# Altium schematic symbol library POGO_INS.Schlib: 1 symbol
Pins are listed as number, name and electrical type; pins without a type are passive.

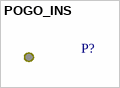
[diagram p0: symbol POGO_INS]

## POGO_INS
designator P?  (mechanical)